# Altium schematic symbol library Micron Memory Serial NOR Flash.SchLib: 207 symbols (part 4 of 12)
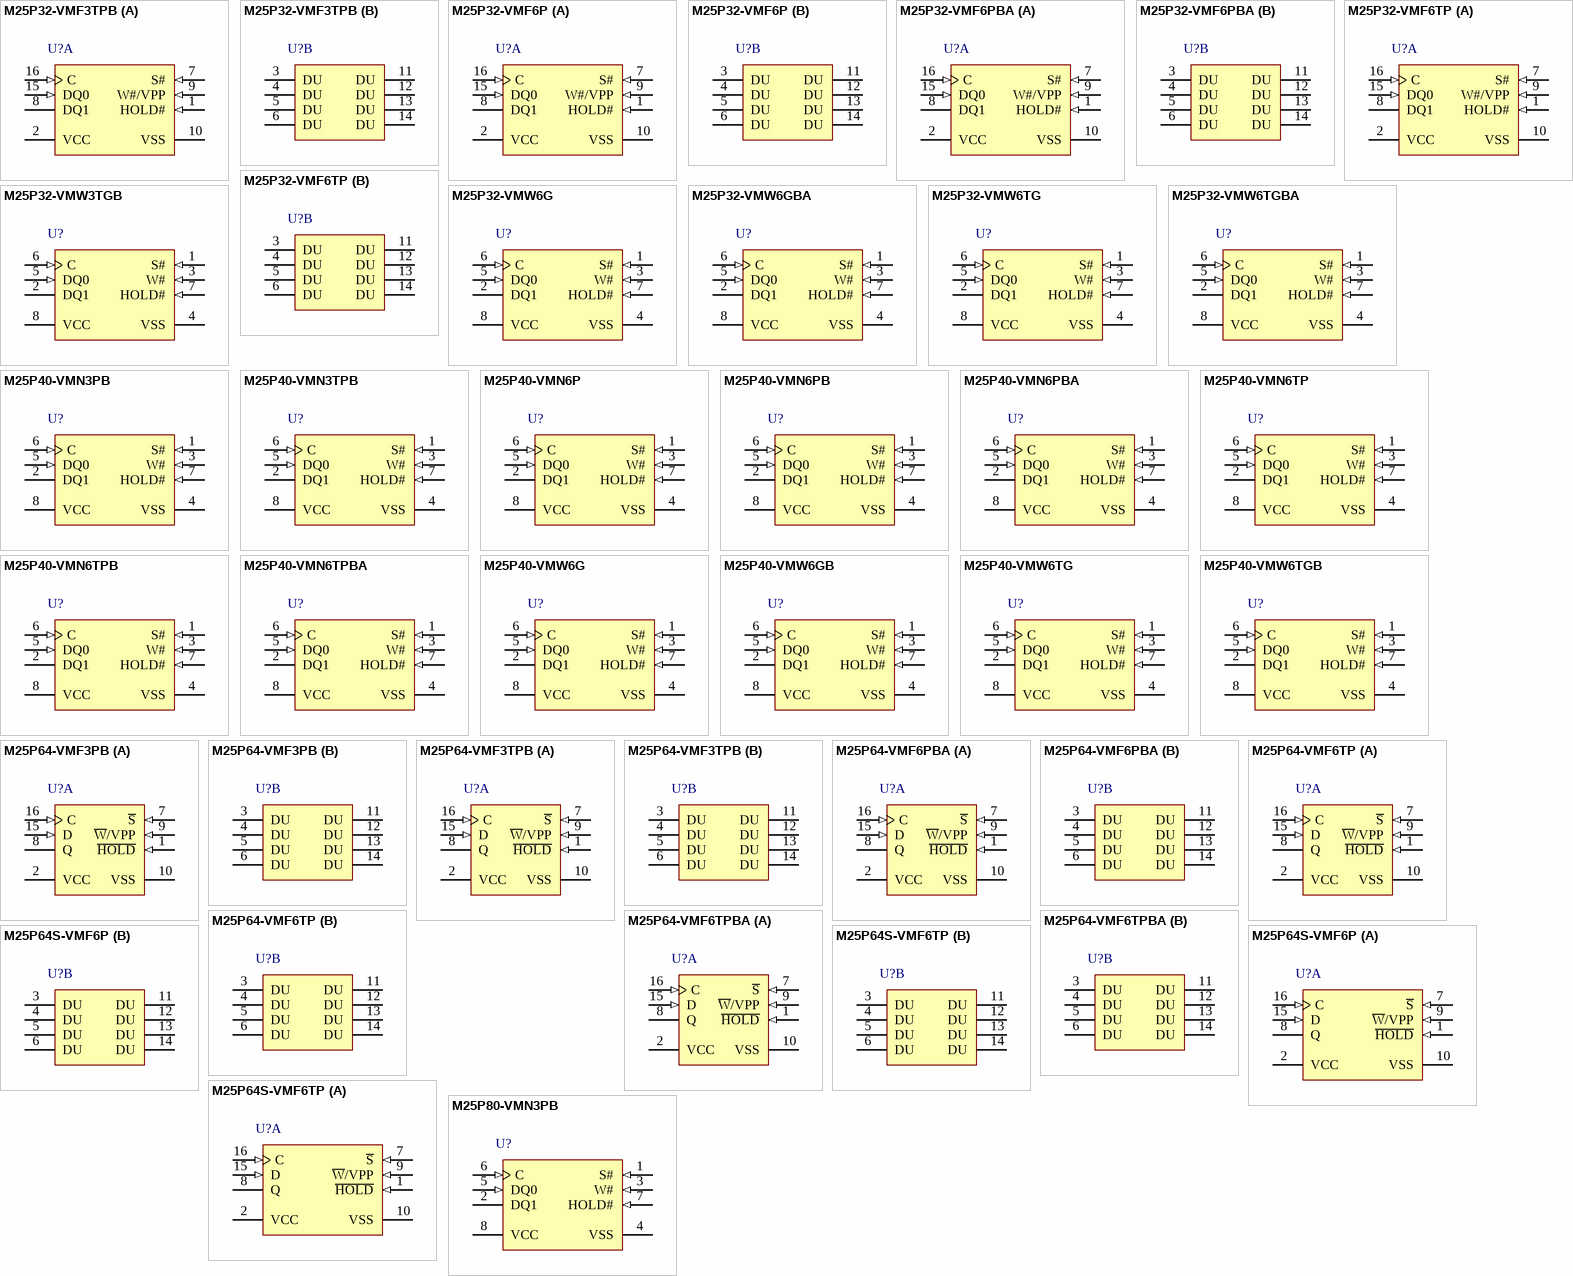
[diagram p10: symbols M25P32-VMF3TPB to M25P80-VMN3PB]

## M25P64-VMF3TPB
designator U?
64 Mb (x1) Automotive Serial NOR Flash Memory, 75 MHz, 2.7 to 3.6 V, 16-pin SO16 Wide (MF), Tape & Reel; Part Family: M25P; Manufacturer: Micron; PartNumber: M25P64-VMF3TPB; Density: 64Mb; Speed: 75 MHz; Voltage: 2.7V-3.6V; DatasheetVersion: Rev. 12; PackageVersion: Rev. A; PackageReference: MICT-MF-16; PackageDescription: 16-Pin SO Wide, 7.5 X 10.3 mm, Pitch 1.27 mm; Applications: Automotive; Package: SO16 Wide; Part Status: Production; RoHS: Yes; Type: Data Storage; Width: x1; Mounting Technology: Surface Mount; ComponentLink1Description: Manufacturer URL; ComponentLink1URL: http://www.micron.com/; ComponentLink2Description: Datasheet; ComponentLink2URL: http://www.micron.com/~/media/Documents/Products/Data%20Sheet/NOR%20Flash/Serial%20NOR/M25P/M25P64.pdf; ComponentLink3Description: Package Specification; ComponentLink3URL: http://www.micron.com/~/media/Documents/Products/Data%20Sheet/NOR%20Flash/Serial%20NOR/M25P/M25P128.pdf
footprint MICT-MF-16_N (SOIC, 16-Leads, Body 10.5x7.6mm, Pitch 1.27mm, IPC Medium Density)
part A pins: 1 ~{HOLD} (in) "The Hold (H\O\L\D\) signal is used to pause any serial communications with the device without  deselecting the device.During the Hold condition, the Serial Data Output (Q) is high impedance, and Serial Data Input (D) and (See Datasheet)", 2 VCC (power) "VCC is the supply voltage.", 7 ~{S} (in) "When this input signal is High, the device is deselected and Serial Data Output (Q) is at high impedance. Unless an internal Program, Erase or Write Status Register cycle is in progress,  the device will be in the Standby (See Datasheet)", 8 Q (hiz) "This output signal is used to transfer data serially out of the device. Data is shifted out on the  falling edge of Serial Clock (C).", 9 ~{W}/VPP (in) "W\/VPP is both a control input and a power supply pin. The two functions are selected by the  voltage range applied to the pin.If the W\/VPP input is kept in a low voltage range (0V to VCC) the pin is seen as a control input.(See Datasheet)", 10 VSS (power) "VSS is the reference for the VCC supply voltage.", 15 D (in) "This input signal is used to transfer data serially into the device. It receives instructions,  addresses, and the data to be programmed. Values are latched on the rising edge of Serial  Clock (C).", 16 C (in) "This input signal provides the timing of the serial interface. Instructions, addresses, or data present at Serial Data Input (D) are latched on the rising edge of Serial Clock (C). Data on Serial Data Output (Q) changes (See Datasheet)"
part B pins: 3 DU "Don’t Use", 4 DU "Don’t Use", 5 DU "Don’t Use", 6 DU "Don’t Use", 11 DU "Don’t Use", 12 DU "Don’t Use", 13 DU "Don’t Use", 14 DU "Don’t Use"

## M25P64-VMF6PBA
designator U?
64 Mb (x1) Automotive Serial NOR Flash Memory, 75 MHz, 2.7 to 3.6 V, 16-pin SO16 Wide (MF), Tube; Part Family: M25P; Manufacturer: Micron; PartNumber: M25P64-VMF6PBA; Density: 64Mb; Speed: 75 MHz; Voltage: 2.7V-3.6V; DatasheetVersion: Rev. 12; PackageVersion: Rev. A; PackageReference: MICT-MF-16; PackageDescription: 16-Pin SO Wide, 7.5 X 10.3 mm, Pitch 1.27 mm; Applications: Automotive; Package: SO16 Wide; Part Status: Production; RoHS: Yes; Type: Data Storage; Width: x1; Mounting Technology: Surface Mount; ComponentLink1Description: Manufacturer URL; ComponentLink1URL: http://www.micron.com/; ComponentLink2Description: Datasheet; ComponentLink2URL: http://www.micron.com/~/media/Documents/Products/Data%20Sheet/NOR%20Flash/Serial%20NOR/M25P/M25P64.pdf; ComponentLink3Description: Package Specification; ComponentLink3URL: http://www.micron.com/~/media/Documents/Products/Data%20Sheet/NOR%20Flash/Serial%20NOR/M25P/M25P128.pdf
footprint MICT-MF-16_N (SOIC, 16-Leads, Body 10.5x7.6mm, Pitch 1.27mm, IPC Medium Density)
part A pins: 1 ~{HOLD} (in) "The Hold (H\O\L\D\) signal is used to pause any serial communications with the device without  deselecting the device.During the Hold condition, the Serial Data Output (Q) is high impedance, and Serial Data Input (D) and (See Datasheet)", 2 VCC (power) "VCC is the supply voltage.", 7 ~{S} (in) "When this input signal is High, the device is deselected and Serial Data Output (Q) is at high impedance. Unless an internal Program, Erase or Write Status Register cycle is in progress,  the device will be in the Standby (See Datasheet)", 8 Q (hiz) "This output signal is used to transfer data serially out of the device. Data is shifted out on the  falling edge of Serial Clock (C).", 9 ~{W}/VPP (in) "W\/VPP is both a control input and a power supply pin. The two functions are selected by the  voltage range applied to the pin.If the W\/VPP input is kept in a low voltage range (0V to VCC) the pin is seen as a control input.(See Datasheet)", 10 VSS (power) "VSS is the reference for the VCC supply voltage.", 15 D (in) "This input signal is used to transfer data serially into the device. It receives instructions,  addresses, and the data to be programmed. Values are latched on the rising edge of Serial  Clock (C).", 16 C (in) "This input signal provides the timing of the serial interface. Instructions, addresses, or data present at Serial Data Input (D) are latched on the rising edge of Serial Clock (C). Data on Serial Data Output (Q) changes (See Datasheet)"
part B pins: 3 DU "Don’t Use", 4 DU "Don’t Use", 5 DU "Don’t Use", 6 DU "Don’t Use", 11 DU "Don’t Use", 12 DU "Don’t Use", 13 DU "Don’t Use", 14 DU "Don’t Use"

## M25P64-VMF6TP
designator U?
64 Mb (x1) Serial NOR Flash Memory, 75 MHz, 2.7 to 3.6 V, 16-pin SO16 Wide (MF), Tape & Reel; Part Family: M25P; Manufacturer: Micron; PartNumber: M25P64-VMF6TP; Density: 64Mb; Speed: 75 MHz; Voltage: 2.7V-3.6V; DatasheetVersion: Rev. 12; PackageVersion: Rev. A; PackageReference: MICT-MF-16; PackageDescription: 16-Pin SO Wide, 7.5 X 10.3 mm, Pitch 1.27 mm; Applications: Embedded; Package: SO16 Wide; Part Status: Production; RoHS: Yes; Type: Data Storage; Width: x1; Mounting Technology: Surface Mount; ComponentLink1Description: Manufacturer URL; ComponentLink1URL: http://www.micron.com/; ComponentLink2Description: Datasheet; ComponentLink2URL: http://www.micron.com/~/media/Documents/Products/Data%20Sheet/NOR%20Flash/Serial%20NOR/M25P/M25P64.pdf; ComponentLink3Description: Package Specification; ComponentLink3URL: http://www.micron.com/~/media/Documents/Products/Data%20Sheet/NOR%20Flash/Serial%20NOR/M25P/M25P128.pdf
footprint MICT-MF-16_N (SOIC, 16-Leads, Body 10.5x7.6mm, Pitch 1.27mm, IPC Medium Density)
part A pins: 1 ~{HOLD} (in) "The Hold (H\O\L\D\) signal is used to pause any serial communications with the device without  deselecting the device.During the Hold condition, the Serial Data Output (Q) is high impedance, and Serial Data Input (D) and (See Datasheet)", 2 VCC (power) "VCC is the supply voltage.", 7 ~{S} (in) "When this input signal is High, the device is deselected and Serial Data Output (Q) is at high impedance. Unless an internal Program, Erase or Write Status Register cycle is in progress,  the device will be in the Standby (See Datasheet)", 8 Q (hiz) "This output signal is used to transfer data serially out of the device. Data is shifted out on the  falling edge of Serial Clock (C).", 9 ~{W}/VPP (in) "W\/VPP is both a control input and a power supply pin. The two functions are selected by the  voltage range applied to the pin.If the W\/VPP input is kept in a low voltage range (0V to VCC) the pin is seen as a control input.(See Datasheet)", 10 VSS (power) "VSS is the reference for the VCC supply voltage.", 15 D (in) "This input signal is used to transfer data serially into the device. It receives instructions,  addresses, and the data to be programmed. Values are latched on the rising edge of Serial  Clock (C).", 16 C (in) "This input signal provides the timing of the serial interface. Instructions, addresses, or data present at Serial Data Input (D) are latched on the rising edge of Serial Clock (C). Data on Serial Data Output (Q) changes (See Datasheet)"
part B pins: 3 DU "Don’t Use", 4 DU "Don’t Use", 5 DU "Don’t Use", 6 DU "Don’t Use", 11 DU "Don’t Use", 12 DU "Don’t Use", 13 DU "Don’t Use", 14 DU "Don’t Use"

## M25P64-VMF6TPBA
designator U?
64 Mb (x1) Automotive Serial NOR Flash Memory, 75 MHz, 2.7 to 3.6 V, 16-pin SO16 Wide (MF), Tape & Reel; Part Family: M25P; Manufacturer: Micron; PartNumber: M25P64-VMF6TPBA; Density: 64Mb; Speed: 75 MHz; Voltage: 2.7V-3.6V; DatasheetVersion: Rev. 12; PackageVersion: Rev. A; PackageReference: MICT-MF-16; PackageDescription: 16-Pin SO Wide, 7.5 X 10.3 mm, Pitch 1.27 mm; Applications: Automotive; Package: SO16 Wide; Part Status: Production; RoHS: Yes; Type: Data Storage; Width: x1; Mounting Technology: Surface Mount; ComponentLink1Description: Manufacturer URL; ComponentLink1URL: http://www.micron.com/; ComponentLink2Description: Datasheet; ComponentLink2URL: http://www.micron.com/~/media/Documents/Products/Data%20Sheet/NOR%20Flash/Serial%20NOR/M25P/M25P64.pdf; ComponentLink3Description: Package Specification; ComponentLink3URL: http://www.micron.com/~/media/Documents/Products/Data%20Sheet/NOR%20Flash/Serial%20NOR/M25P/M25P128.pdf
footprint MICT-MF-16_N (SOIC, 16-Leads, Body 10.5x7.6mm, Pitch 1.27mm, IPC Medium Density)
part A pins: 1 ~{HOLD} (in) "The Hold (H\O\L\D\) signal is used to pause any serial communications with the device without  deselecting the device.During the Hold condition, the Serial Data Output (Q) is high impedance, and Serial Data Input (D) and (See Datasheet)", 2 VCC (power) "VCC is the supply voltage.", 7 ~{S} (in) "When this input signal is High, the device is deselected and Serial Data Output (Q) is at high impedance. Unless an internal Program, Erase or Write Status Register cycle is in progress,  the device will be in the Standby (See Datasheet)", 8 Q (hiz) "This output signal is used to transfer data serially out of the device. Data is shifted out on the  falling edge of Serial Clock (C).", 9 ~{W}/VPP (in) "W\/VPP is both a control input and a power supply pin. The two functions are selected by the  voltage range applied to the pin.If the W\/VPP input is kept in a low voltage range (0V to VCC) the pin is seen as a control input.(See Datasheet)", 10 VSS (power) "VSS is the reference for the VCC supply voltage.", 15 D (in) "This input signal is used to transfer data serially into the device. It receives instructions,  addresses, and the data to be programmed. Values are latched on the rising edge of Serial  Clock (C).", 16 C (in) "This input signal provides the timing of the serial interface. Instructions, addresses, or data present at Serial Data Input (D) are latched on the rising edge of Serial Clock (C). Data on Serial Data Output (Q) changes (See Datasheet)"
part B pins: 3 DU "Don’t Use", 4 DU "Don’t Use", 5 DU "Don’t Use", 6 DU "Don’t Use", 11 DU "Don’t Use", 12 DU "Don’t Use", 13 DU "Don’t Use", 14 DU "Don’t Use"

## M25P64S-VMF6P
designator U?
64 Mb (x1) Serial NOR Flash Memory, 75 MHz, 2.7 to 3.6 V, 16-pin SO16 Wide (MF), Tube; Part Family: M25P; Manufacturer: Micron; PartNumber: M25P64S-VMF6P; Density: 64Mb; Speed: 75 MHz; Voltage: 2.7V-3.6V; DatasheetVersion: Rev. 12; PackageVersion: Rev. A; PackageReference: MICT-MF-16; PackageDescription: 16-Pin SO Wide, 7.5 X 10.3 mm, Pitch 1.27 mm; Applications: Embedded; Package: SO16 Wide; Part Status: Contact Factory; RoHS: Yes; Type: Data Storage; Width: x1; Mounting Technology: Surface Mount; ComponentLink1Description: Manufacturer URL; ComponentLink1URL: http://www.micron.com/; ComponentLink2Description: Datasheet; ComponentLink2URL: http://www.micron.com/~/media/Documents/Products/Data%20Sheet/NOR%20Flash/Serial%20NOR/M25P/M25P64.pdf; ComponentLink3Description: Package Specification; ComponentLink3URL: http://www.micron.com/~/media/Documents/Products/Data%20Sheet/NOR%20Flash/Serial%20NOR/M25P/M25P128.pdf
footprint MICT-MF-16_N (SOIC, 16-Leads, Body 10.5x7.6mm, Pitch 1.27mm, IPC Medium Density)
part A pins: 1 ~{HOLD} (in) "The Hold (H\O\L\D\) signal is used to pause any serial communications with the device withoutdeselecting the device.During the Hold condition, the Serial Data Output (Q) is high impedance, and Serial DataInput (D) and Serial (See Datasheet)", 2 VCC (power) "VCC is the supply voltage.", 7 ~{S} (in) "When this input signal is High, the device is deselected and Serial Data Output (Q) is at highimpedance. Unless an internal Program, Erase or Write Status Register cycle is in progress,the device will be in the Standby Power (See Datasheet)", 8 Q (hiz) "This output signal is used to transfer data serially out of the device. Data is shifted out on the  falling edge of Serial Clock (C).", 9 ~{W}/VPP (in) "Write Protect/Enhanced Program supply voltage (W\/VPP) W\/VPP is both a control input and a power supply pin. The two functions are selected by the voltage range applied to the pin. If the W\/VPP input is kept in a low (See Datasheet)", 10 VSS (power) "VSS is the reference for the VCC supply voltage.", 15 D (in) "This input signal is used to transfer data serially into the device. It receives instructions,addresses, and the data to be programmed. Values are latched on the rising edge of SerialClock (C).", 16 C (in) "This input signal provides the timing of the serial interface. Instructions, addresses, or datapresent at Serial Data Input (D) are latched on the rising edge of Serial Clock (C). Data onSerial Data Output (Q) changes after (See Datasheet)"
part B pins: 3 DU "Don’t Use.", 4 DU "Don’t Use.", 5 DU "Don’t Use.", 6 DU "Don’t Use.", 11 DU "Don’t Use.", 12 DU "Don’t Use.", 13 DU "Don’t Use.", 14 DU "Don’t Use."

## M25P64S-VMF6TP
designator U?
64 Mb (x1) Serial NOR Flash Memory, 75 MHz, 2.7 to 3.6 V, 16-pin SO16 Wide (MF), Tape & Reel; Part Family: M25P; Manufacturer: Micron; PartNumber: M25P64S-VMF6TP; Density: 64Mb; Speed: 75 MHz; Voltage: 2.7V-3.6V; DatasheetVersion: Rev. 12; PackageVersion: Rev. A; PackageReference: MICT-MF-16; PackageDescription: 16-Pin SO Wide, 7.5 X 10.3 mm, Pitch 1.27 mm; Applications: Embedded; Package: SO16 Wide; Part Status: Contact Factory; RoHS: Yes; Type: Data Storage; Width: x1; Mounting Technology: Surface Mount; ComponentLink1Description: Manufacturer URL; ComponentLink1URL: http://www.micron.com/; ComponentLink2Description: Datasheet; ComponentLink2URL: http://www.micron.com/~/media/Documents/Products/Data%20Sheet/NOR%20Flash/Serial%20NOR/M25P/M25P64.pdf; ComponentLink3Description: Package Specification; ComponentLink3URL: http://www.micron.com/~/media/Documents/Products/Data%20Sheet/NOR%20Flash/Serial%20NOR/M25P/M25P128.pdf
footprint MICT-MF-16_N (SOIC, 16-Leads, Body 10.5x7.6mm, Pitch 1.27mm, IPC Medium Density)
part A pins: 1 ~{HOLD} (in) "The Hold (H\O\L\D\) signal is used to pause any serial communications with the device withoutdeselecting the device.During the Hold condition, the Serial Data Output (Q) is high impedance, and Serial DataInput (D) and Serial (See Datasheet)", 2 VCC (power) "VCC is the supply voltage.", 7 ~{S} (in) "When this input signal is High, the device is deselected and Serial Data Output (Q) is at highimpedance. Unless an internal Program, Erase or Write Status Register cycle is in progress,the device will be in the Standby Power (See Datasheet)", 8 Q (hiz) "This output signal is used to transfer data serially out of the device. Data is shifted out on the  falling edge of Serial Clock (C).", 9 ~{W}/VPP (in) "Write Protect/Enhanced Program supply voltage (W\/VPP) W\/VPP is both a control input and a power supply pin. The two functions are selected by the voltage range applied to the pin. If the W\/VPP input is kept in a low (See Datasheet)", 10 VSS (power) "VSS is the reference for the VCC supply voltage.", 15 D (in) "This input signal is used to transfer data serially into the device. It receives instructions,addresses, and the data to be programmed. Values are latched on the rising edge of SerialClock (C).", 16 C (in) "This input signal provides the timing of the serial interface. Instructions, addresses, or datapresent at Serial Data Input (D) are latched on the rising edge of Serial Clock (C). Data onSerial Data Output (Q) changes after (See Datasheet)"
part B pins: 3 DU "Don’t Use.", 4 DU "Don’t Use.", 5 DU "Don’t Use.", 6 DU "Don’t Use.", 11 DU "Don’t Use.", 12 DU "Don’t Use.", 13 DU "Don’t Use.", 14 DU "Don’t Use."

## M25P80-VMN3PB
designator U?
8 Mb (x1) Automotive Serial NOR Flash Memory, 75 MHz, 2.7 to 3.6 V, 8-pin SO8 Narrow (MN), Tube; Part Family: M25P; Manufacturer: Micron; PartNumber: M25P80-VMN3PB; Density: 8Mb; Speed: 75 MHz; Voltage: 2.7V-3.6V; DatasheetVersion: Rev. Y; PackageVersion: Rev 11; PackageReference: MICT-MN-8; PackageDescription: 8-Pin SO Narrow, 3.9 X 4.9 mm, Pitch 1.27 mm; Applications: Automotive; Package: SO8 Narrow; Part Status: Production; RoHS: Yes; Type: Data Storage; Width: x1; Mounting Technology: Surface Mount; ComponentLink1Description: Manufacturer URL; ComponentLink1URL: http://www.micron.com/; ComponentLink2Description: Datasheet; ComponentLink2URL: http://www.micron.com/~/media/Documents/Products/Data%20Sheet/NOR%20Flash/Serial%20NOR/M25P/M25P80.pdf; ComponentLink3Description: Package Specification; ComponentLink3URL: http://www.micron.com/~/media/Documents/Products/Data%20Sheet/NOR%20Flash/Serial%20NOR/M25P/M25P05A.pdf
footprint MICT-MN-8_N (SOIC, 8-Leads, Body 5x4mm, Pitch 1.27mm, IPC Medium Density)
pins: 1 S# (in) "Chip select: When the S# input signal is HIGH, the device is deselected and DQ1 is at HIGH impedance. Unless an internal PROGRAM, ERASE, or WRITE STATUS REGISTER cycle is in progress, the device will be in the standby power (See Datasheet)", 2 DQ1 (hiz) "Serial data: The DQ1 output signal is used to transfer data serially out of the device.Data is shifted out on the falling edge of the serial clock (C).", 3 W# (in) "Write protect: The W# input signal is used to freeze the size of the area of memory that is protected against program or erase commands as specified by the values in BP2, BP1, and BP0 bits of the Status Register.", 4 VSS (power) "Ground: Reference for the VCC supply voltage.", 5 DQ0 (in) "Serial data: The DQ0 input signal is used to transfer data serially into the device. It receives commands, addresses, and the data to be programmed. Values are latched on the rising edge of the serial clock (C).", 6 C (in) "Clock: The C input signal provides the timing of the serial interface. Commands, addresses, or data present at serial data input (DQ0) are latched on the rising edge of the serial clock (C). Data on DQ1 changes after the (See Datasheet)", 7 HOLD# (in) "Hold: The HOLD# signal is used to pause any serial communications with the device without deselecting the device. During the hold condition, DQ1 is HIGH impedance.DQ0 and C are Don’t care. To start the hold condition, the (See Datasheet)", 8 VCC (power) "Device core power supply: Source voltage."

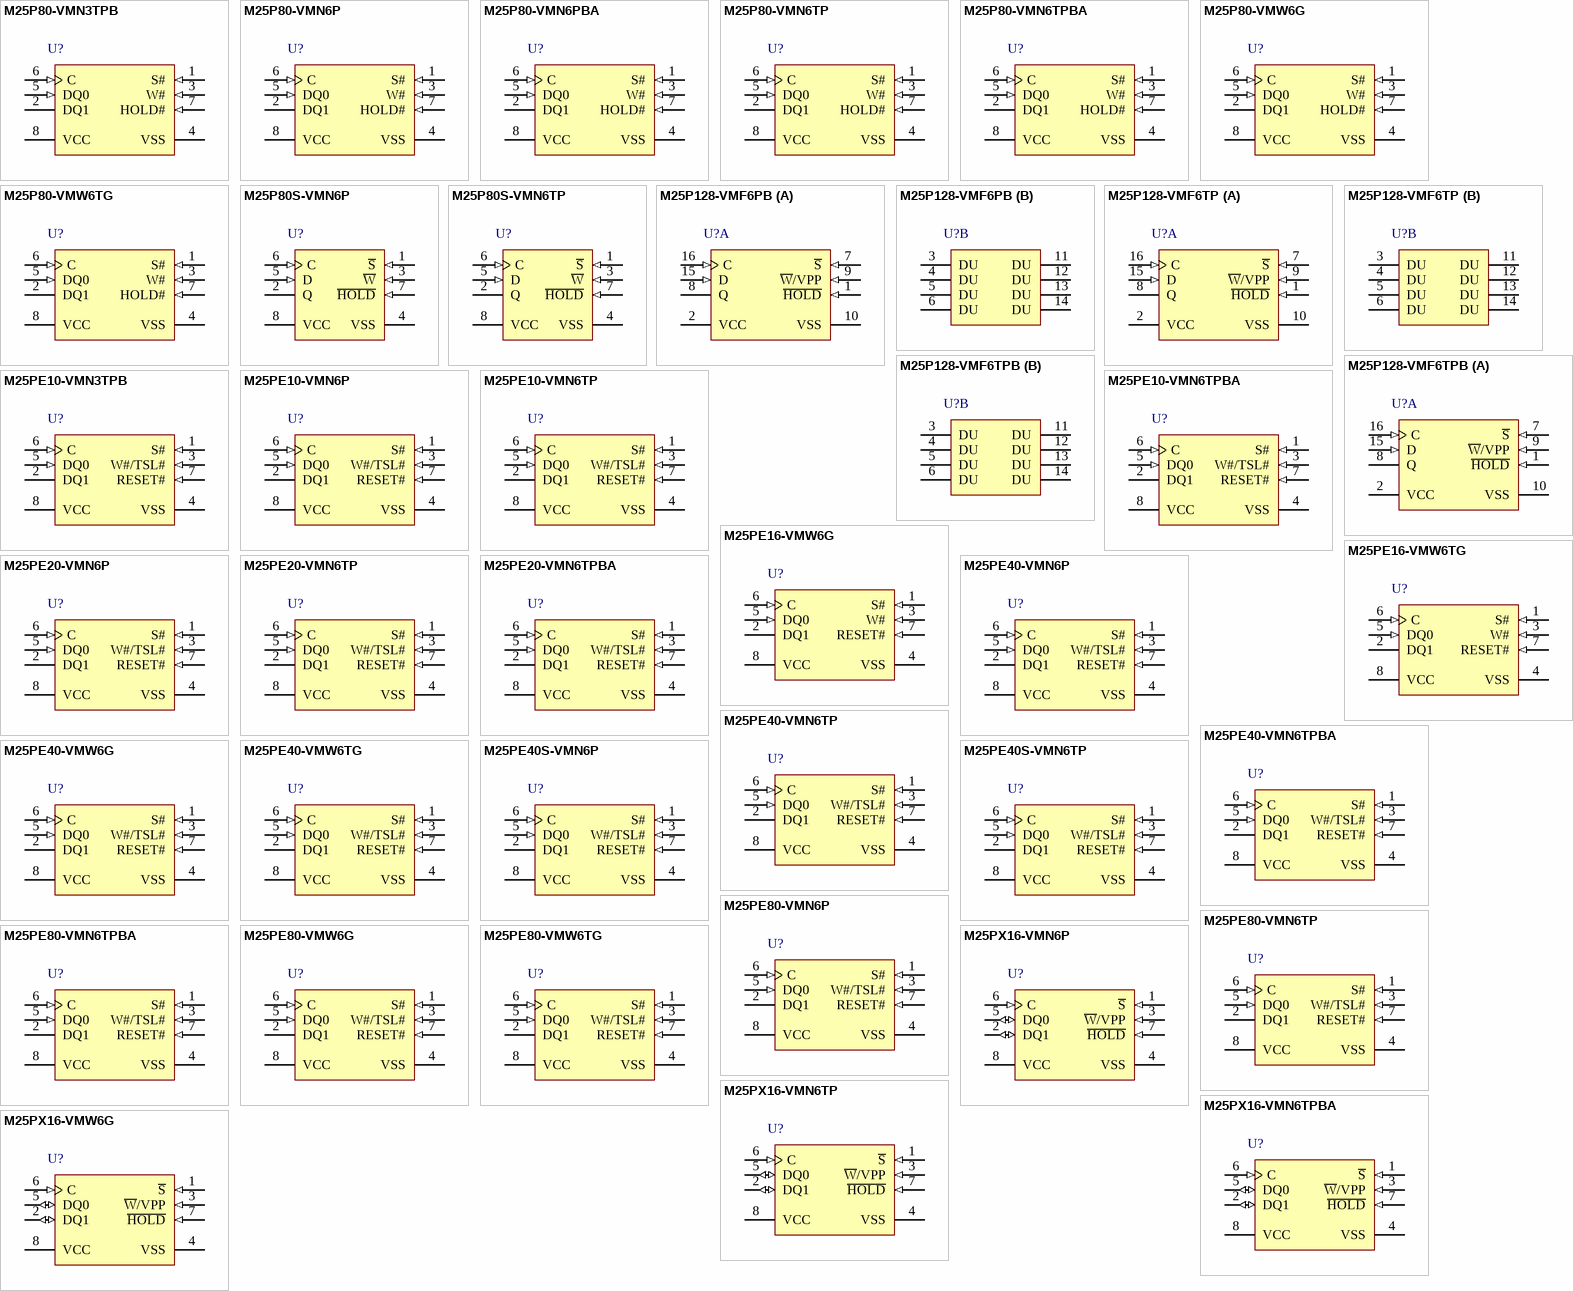
[diagram p2: symbols M25P80-VMN3TPB to M25PX16-VMW6G]

## M25P80-VMN3TPB
designator U?
8 Mb (x1) Automotive Serial NOR Flash Memory, 75 MHz, 2.7 to 3.6 V, 8-pin SO8 Narrow (MN), Tape & Reel; Part Family: M25P; Manufacturer: Micron; PartNumber: M25P80-VMN3TPB; Density: 8Mb; Speed: 75 MHz; Voltage: 2.7V-3.6V; DatasheetVersion: Rev. Y; PackageVersion: Rev 11; PackageReference: MICT-MN-8; PackageDescription: 8-Pin SO Narrow, 3.9 X 4.9 mm, Pitch 1.27 mm; Applications: Automotive; Package: SO8 Narrow; Part Status: Production; RoHS: Yes; Type: Data Storage; Width: x1; Mounting Technology: Surface Mount; ComponentLink1Description: Manufacturer URL; ComponentLink1URL: http://www.micron.com/; ComponentLink2Description: Datasheet; ComponentLink2URL: http://www.micron.com/~/media/Documents/Products/Data%20Sheet/NOR%20Flash/Serial%20NOR/M25P/M25P80.pdf; ComponentLink3Description: Package Specification; ComponentLink3URL: http://www.micron.com/~/media/Documents/Products/Data%20Sheet/NOR%20Flash/Serial%20NOR/M25P/M25P05A.pdf
footprint MICT-MN-8_N (SOIC, 8-Leads, Body 5x4mm, Pitch 1.27mm, IPC Medium Density)
pins: 1 S# (in) "Chip select: When the S# input signal is HIGH, the device is deselected and DQ1 is at HIGH impedance. Unless an internal PROGRAM, ERASE, or WRITE STATUS REGISTER cycle is in progress, the device will be in the standby power (See Datasheet)", 2 DQ1 (hiz) "Serial data: The DQ1 output signal is used to transfer data serially out of the device. Data is shifted out on the falling edge of the serial clock (C).", 3 W# (in) "Write protect: The W# input signal is used to freeze the size of the area of memory that is protected against program or erase commands as specified by the values in BP2, BP1, and BP0 bits of the Status Register.", 4 VSS (power) "Ground: Reference for the VCC supply voltage.", 5 DQ0 (in) "Serial data: The DQ0 input signal is used to transfer data serially into the device. It receives commands, addresses, and the data to be programmed. Values are latched on the rising edge of the serial clock (C).", 6 C (in) "Clock: The C input signal provides the timing of the serial interface. Commands, addresses, or data present at serial data input (DQ0) is latched on the rising edge of the serial clock (C). Data on DQ1 changes after the (See Datasheet)", 7 HOLD# (in) "Hold: The HOLD# signal is used to pause any serial communications with the device without deselecting the device. During the hold condition, DQ1 is High-Z. DQ0 and C are "Don’t Care." To start the hold condition, the device (See Datasheet)", 8 VCC (power) "Device core power supply: Source voltage."

## M25P80-VMN6P
designator U?
8 Mb (x1) Serial NOR Flash Memory, 75 MHz, 2.7 to 3.6 V, 8-pin SO8 Narrow (MN), Tube; Part Family: M25P; Manufacturer: Micron; PartNumber: M25P80-VMN6P; Density: 8Mb; Speed: 75 MHz; Voltage: 2.7V-3.6V; DatasheetVersion: Rev. Y; PackageVersion: Rev 11; PackageReference: MICT-MN-8; PackageDescription: 8-Pin SO Narrow, 3.9 X 4.9 mm, Pitch 1.27 mm; Applications: Embedded; Package: SO8 Narrow; Part Status: Production; RoHS: Yes; Type: Data Storage; Width: x1; Mounting Technology: Surface Mount; ComponentLink1Description: Manufacturer URL; ComponentLink1URL: http://www.micron.com/; ComponentLink2Description: Datasheet; ComponentLink2URL: http://www.micron.com/~/media/Documents/Products/Data%20Sheet/NOR%20Flash/Serial%20NOR/M25P/M25P80.pdf; ComponentLink3Description: Package Specification; ComponentLink3URL: http://www.micron.com/~/media/Documents/Products/Data%20Sheet/NOR%20Flash/Serial%20NOR/M25P/M25P05A.pdf
footprint MICT-MN-8_N (SOIC, 8-Leads, Body 5x4mm, Pitch 1.27mm, IPC Medium Density)
pins: 1 S# (in) "Chip select: When the S# input signal is HIGH, the device is deselected and DQ1 is at HIGH impedance. Unless an internal PROGRAM, ERASE, or WRITE STATUS REGISTER cycle is in progress, the device will be in the standby power (See Datasheet)", 2 DQ1 (hiz) "Serial data: The DQ1 output signal is used to transfer data serially out of the device.Data is shifted out on the falling edge of the serial clock (C).", 3 W# (in) "Write protect: The W# input signal is used to freeze the size of the area of memory that is protected against program or erase commands as specified by the values in BP2, BP1, and BP0 bits of the Status Register.", 4 VSS (power) "Ground: Reference for the VCC supply voltage.", 5 DQ0 (in) "Serial data: The DQ0 input signal is used to transfer data serially into the device. It receives commands, addresses, and the data to be programmed. Values are latched on the rising edge of the serial clock (C).", 6 C (in) "Clock: The C input signal provides the timing of the serial interface. Commands, addresses, or data present at serial data input (DQ0) are latched on the rising edge of the serial clock (C). Data on DQ1 changes after the (See Datasheet)", 7 HOLD# (in) "Hold: The HOLD# signal is used to pause any serial communications with the device without deselecting the device. During the hold condition, DQ1 is HIGH impedance.DQ0 and C are Don’t care. To start the hold condition, the (See Datasheet)", 8 VCC (power) "Device core power supply: Source voltage."

## M25P80-VMN6PBA
designator U?
8 Mb (x1) Automotive Serial NOR Flash Memory, 75 MHz, 2.7 to 3.6 V, 8-pin SO8 Narrow (MN), Tube; Part Family: M25P; Manufacturer: Micron; PartNumber: M25P80-VMN6PBA; Density: 8Mb; Speed: 75 MHz; Voltage: 2.7V-3.6V; DatasheetVersion: Rev. Y; PackageVersion: Rev 11; PackageReference: MICT-MN-8; PackageDescription: 8-Pin SO Narrow, 3.9 X 4.9 mm, Pitch 1.27 mm; Applications: Automotive; Package: SO8 Narrow; Part Status: Production; RoHS: Yes; Type: Data Storage; Width: x1; Mounting Technology: Surface Mount; ComponentLink1Description: Manufacturer URL; ComponentLink1URL: http://www.micron.com/; ComponentLink2Description: Datasheet; ComponentLink2URL: http://www.micron.com/~/media/Documents/Products/Data%20Sheet/NOR%20Flash/Serial%20NOR/M25P/M25P80.pdf; ComponentLink3Description: Package Specification; ComponentLink3URL: http://www.micron.com/~/media/Documents/Products/Data%20Sheet/NOR%20Flash/Serial%20NOR/M25P/M25P05A.pdf
footprint MICT-MN-8_N (SOIC, 8-Leads, Body 5x4mm, Pitch 1.27mm, IPC Medium Density)
pins: 1 S# (in) "Chip select: When the S# input signal is HIGH, the device is deselected and DQ1 is at HIGH impedance. Unless an internal PROGRAM, ERASE, or WRITE STATUS REGISTER cycle is in progress, the device will be in the standby power (See Datasheet)", 2 DQ1 (hiz) "Serial data: The DQ1 output signal is used to transfer data serially out of the device.Data is shifted out on the falling edge of the serial clock (C).", 3 W# (in) "Write protect: The W# input signal is used to freeze the size of the area of memory that is protected against program or erase commands as specified by the values in BP2, BP1, and BP0 bits of the Status Register.", 4 VSS (power) "Ground: Reference for the VCC supply voltage.", 5 DQ0 (in) "Serial data: The DQ0 input signal is used to transfer data serially into the device. It receives commands, addresses, and the data to be programmed. Values are latched on the rising edge of the serial clock (C).", 6 C (in) "Clock: The C input signal provides the timing of the serial interface. Commands, addresses, or data present at serial data input (DQ0) are latched on the rising edge of the serial clock (C). Data on DQ1 changes after the (See Datasheet)", 7 HOLD# (in) "Hold: The HOLD# signal is used to pause any serial communications with the device without deselecting the device. During the hold condition, DQ1 is HIGH impedance.DQ0 and C are Don’t care. To start the hold condition, the (See Datasheet)", 8 VCC (power) "Device core power supply: Source voltage."

## M25P80-VMN6TP
designator U?
8 Mb (x1) Serial NOR Flash Memory, 75 MHz, 2.7 to 3.6 V, 8-pin SO8 Narrow (MN), Tape & Reel; Part Family: M25P; Manufacturer: Micron; PartNumber: M25P80-VMN6TP; Density: 8Mb; Speed: 75 MHz; Voltage: 2.7V-3.6V; DatasheetVersion: Rev. Y; PackageVersion: Rev 11; PackageReference: MICT-MN-8; PackageDescription: 8-Pin SO Narrow, 3.9 X 4.9 mm, Pitch 1.27 mm; Applications: Embedded; Package: SO8 Narrow; Part Status: Production; RoHS: Yes; Type: Data Storage; Width: x1; Mounting Technology: Surface Mount; ComponentLink1Description: Manufacturer URL; ComponentLink1URL: http://www.micron.com/; ComponentLink2Description: Datasheet; ComponentLink2URL: http://www.micron.com/~/media/Documents/Products/Data%20Sheet/NOR%20Flash/Serial%20NOR/M25P/M25P80.pdf; ComponentLink3Description: Package Specification; ComponentLink3URL: http://www.micron.com/~/media/Documents/Products/Data%20Sheet/NOR%20Flash/Serial%20NOR/M25P/M25P05A.pdf
footprint MICT-MN-8_N (SOIC, 8-Leads, Body 5x4mm, Pitch 1.27mm, IPC Medium Density)
pins: 1 S# (in) "Chip select: When the S# input signal is HIGH, the device is deselected and DQ1 is at HIGH impedance. Unless an internal PROGRAM, ERASE, or WRITE STATUS REGISTER cycle is in progress, the device will be in the standby power (See Datasheet)", 2 DQ1 (hiz) "Serial data: The DQ1 output signal is used to transfer data serially out of the device.Data is shifted out on the falling edge of the serial clock (C).", 3 W# (in) "Write protect: The W# input signal is used to freeze the size of the area of memory that is protected against program or erase commands as specified by the values in BP2, BP1, and BP0 bits of the Status Register.", 4 VSS (power) "Ground: Reference for the VCC supply voltage.", 5 DQ0 (in) "Serial data: The DQ0 input signal is used to transfer data serially into the device. It receives commands, addresses, and the data to be programmed. Values are latched on the rising edge of the serial clock (C).", 6 C (in) "Clock: The C input signal provides the timing of the serial interface. Commands, addresses, or data present at serial data input (DQ0) are latched on the rising edge of the serial clock (C). Data on DQ1 changes after the (See Datasheet)", 7 HOLD# (in) "Hold: The HOLD# signal is used to pause any serial communications with the device without deselecting the device. During the hold condition, DQ1 is HIGH impedance.DQ0 and C are Don’t care. To start the hold condition, the (See Datasheet)", 8 VCC (power) "Device core power supply: Source voltage."

## M25P80-VMN6TPBA
designator U?
8 Mb (x1) Automotive Serial NOR Flash Memory, 75 MHz, 2.7 to 3.6 V, 8-pin SO8 Narrow (MN), Tape & Reel; Part Family: M25P; Manufacturer: Micron; PartNumber: M25P80-VMN6TPBA; Density: 8Mb; Speed: 75 MHz; Voltage: 2.7V-3.6V; DatasheetVersion: Rev. Y; PackageVersion: Rev 11; PackageReference: MICT-MN-8; PackageDescription: 8-Pin SO Narrow, 3.9 X 4.9 mm, Pitch 1.27 mm; Applications: Automotive; Package: SO8 Narrow; Part Status: Production; RoHS: Yes; Type: Data Storage; Width: x1; Mounting Technology: Surface Mount; ComponentLink1Description: Manufacturer URL; ComponentLink1URL: http://www.micron.com/; ComponentLink2Description: Datasheet; ComponentLink2URL: http://www.micron.com/~/media/Documents/Products/Data%20Sheet/NOR%20Flash/Serial%20NOR/M25P/M25P80.pdf; ComponentLink3Description: Package Specification; ComponentLink3URL: http://www.micron.com/~/media/Documents/Products/Data%20Sheet/NOR%20Flash/Serial%20NOR/M25P/M25P05A.pdf
footprint MICT-MN-8_N (SOIC, 8-Leads, Body 5x4mm, Pitch 1.27mm, IPC Medium Density)
pins: 1 S# (in) "Chip select: When the S# input signal is HIGH, the device is deselected and DQ1 is at HIGH impedance. Unless an internal PROGRAM, ERASE, or WRITE STATUS REGISTER cycle is in progress, the device will be in the standby power (See Datasheet)", 2 DQ1 (hiz) "Serial data: The DQ1 output signal is used to transfer data serially out of the device.Data is shifted out on the falling edge of the serial clock (C).", 3 W# (in) "Write protect: The W# input signal is used to freeze the size of the area of memory that is protected against program or erase commands as specified by the values in BP2, BP1, and BP0 bits of the Status Register.", 4 VSS (power) "Ground: Reference for the VCC supply voltage.", 5 DQ0 (in) "Serial data: The DQ0 input signal is used to transfer data serially into the device. It receives commands, addresses, and the data to be programmed. Values are latched on the rising edge of the serial clock (C).", 6 C (in) "Clock: The C input signal provides the timing of the serial interface. Commands, addresses, or data present at serial data input (DQ0) are latched on the rising edge of the serial clock (C). Data on DQ1 changes after the (See Datasheet)", 7 HOLD# (in) "Hold: The HOLD# signal is used to pause any serial communications with the device without deselecting the device. During the hold condition, DQ1 is HIGH impedance.DQ0 and C are Don’t care. To start the hold condition, the (See Datasheet)", 8 VCC (power) "Device core power supply: Source voltage."

## M25P80-VMW6G
designator U?
8 Mb (x1) Serial NOR Flash Memory, 75 MHz, 2.7 to 3.6 V, 8-pin SO8 Wide (MW), Tube; Part Family: M25P; Manufacturer: Micron; PartNumber: M25P80-VMW6G; Density: 8Mb; Speed: 75 MHz; Voltage: 2.7V-3.6V; DatasheetVersion: Rev. Y; PackageVersion: Rev 8; PackageReference: MICT-MW-8; PackageDescription: 8-Pin SO Wide, 5.62 X 6.05 mm, Pitch 1.27 mm; Applications: Embedded; Package: SO8 Wide; Part Status: Production; RoHS: Yes; Type: Data Storage; Width: x1; Mounting Technology: Surface Mount; ComponentLink1Description: Manufacturer URL; ComponentLink1URL: http://www.micron.com/; ComponentLink2Description: Datasheet; ComponentLink2URL: http://www.micron.com/~/media/Documents/Products/Data%20Sheet/NOR%20Flash/Serial%20NOR/M25P/M25P80.pdf; ComponentLink3Description: Package Specification; ComponentLink3URL: http://www.micron.com/~/media/Documents/Products/Data%20Sheet/NOR%20Flash/Serial%20NOR/M25P/M25P16.pdf
footprint MICT-MW-8_N (SOIC, 8-Leads, Body 6.2x6.1mm, Pitch 1.27mm, IPC Medium Density)
pins: 1 S# (in) "Chip select: When the S# input signal is HIGH, the device is deselected and DQ1 is at HIGH impedance. Unless an internal PROGRAM, ERASE, or WRITE STATUS REGISTER cycle is in progress, the device will be in the standby power (See Datasheet)", 2 DQ1 (hiz) "Serial data: The DQ1 output signal is used to transfer data serially out of the device.Data is shifted out on the falling edge of the serial clock (C).", 3 W# (in) "Write protect: The W# input signal is used to freeze the size of the area of memory that is protected against program or erase commands as specified by the values in BP2, BP1, and BP0 bits of the Status Register.", 4 VSS (power) "Ground: Reference for the VCC supply voltage.", 5 DQ0 (in) "Serial data: The DQ0 input signal is used to transfer data serially into the device. It receives commands, addresses, and the data to be programmed. Values are latched on the rising edge of the serial clock (C).", 6 C (in) "Clock: The C input signal provides the timing of the serial interface. Commands, addresses, or data present at serial data input (DQ0) are latched on the rising edge of the serial clock (C). Data on DQ1 changes after the (See Datasheet)", 7 HOLD# (in) "Hold: The HOLD# signal is used to pause any serial communications with the device without deselecting the device. During the hold condition, DQ1 is HIGH impedance.DQ0 and C are Don’t care. To start the hold condition, the (See Datasheet)", 8 VCC (power) "Device core power supply: Source voltage."

## M25P80-VMW6TG
designator U?
8 Mb (x1) Serial NOR Flash Memory, 75 MHz, 2.7 to 3.6 V, 8-pin SO8 Wide (MW), Tape & Reel; Part Family: M25P; Manufacturer: Micron; PartNumber: M25P80-VMW6TG; Density: 8Mb; Speed: 75 MHz; Voltage: 2.7V-3.6V; DatasheetVersion: Rev. Y; PackageVersion: Rev 8; PackageReference: MICT-MW-8; PackageDescription: 8-Pin SO Wide, 5.62 X 6.05 mm, Pitch 1.27 mm; Applications: Embedded; Package: SO8 Wide; Part Status: Production; RoHS: Yes; Type: Data Storage; Width: x1; Mounting Technology: Surface Mount; ComponentLink1Description: Manufacturer URL; ComponentLink1URL: http://www.micron.com/; ComponentLink2Description: Datasheet; ComponentLink2URL: http://www.micron.com/~/media/Documents/Products/Data%20Sheet/NOR%20Flash/Serial%20NOR/M25P/M25P80.pdf; ComponentLink3Description: Package Specification; ComponentLink3URL: http://www.micron.com/~/media/Documents/Products/Data%20Sheet/NOR%20Flash/Serial%20NOR/M25P/M25P16.pdf
footprint MICT-MW-8_N (SOIC, 8-Leads, Body 6.2x6.1mm, Pitch 1.27mm, IPC Medium Density)
pins: 1 S# (in) "Chip select: When the S# input signal is HIGH, the device is deselected and DQ1 is at HIGH impedance. Unless an internal PROGRAM, ERASE, or WRITE STATUS REGISTER cycle is in progress, the device will be in the standby power (See Datasheet)", 2 DQ1 (hiz) "Serial data: The DQ1 output signal is used to transfer data serially out of the device.Data is shifted out on the falling edge of the serial clock (C).", 3 W# (in) "Write protect: The W# input signal is used to freeze the size of the area of memory that is protected against program or erase commands as specified by the values in BP2, BP1, and BP0 bits of the Status Register.", 4 VSS (power) "Ground: Reference for the VCC supply voltage.", 5 DQ0 (in) "Serial data: The DQ0 input signal is used to transfer data serially into the device. It receives commands, addresses, and the data to be programmed. Values are latched on the rising edge of the serial clock (C).", 6 C (in) "Clock: The C input signal provides the timing of the serial interface. Commands, addresses, or data present at serial data input (DQ0) are latched on the rising edge of the serial clock (C). Data on DQ1 changes after the (See Datasheet)", 7 HOLD# (in) "Hold: The HOLD# signal is used to pause any serial communications with the device without deselecting the device. During the hold condition, DQ1 is HIGH impedance.DQ0 and C are Don’t care. To start the hold condition, the (See Datasheet)", 8 VCC (power) "Device core power supply: Source voltage."

## M25P80S-VMN6P
designator U?
8 Mb (x1) Serial NOR Flash Memory, 75 MHz, 2.7 to 3.6 V, 8-pin SO8 Narrow (MN), Tube; Part Family: M25P; Manufacturer: Micron; PartNumber: M25P80S-VMN6P; Density: 8Mb; Speed: 75 MHz; Voltage: 2.7V-3.6V; DatasheetVersion: Rev. Y; PackageVersion: Rev 11; PackageReference: MICT-MN-8; PackageDescription: 8-Pin SO Narrow, 3.9 X 4.9 mm, Pitch 1.27 mm; Applications: Embedded; Package: SO8 Narrow; Part Status: Production; RoHS: Yes; Type: Data Storage; Width: x1; Mounting Technology: Surface Mount; ComponentLink1Description: Manufacturer URL; ComponentLink1URL: http://www.micron.com/; ComponentLink2Description: Datasheet; ComponentLink2URL: http://www.micron.com/~/media/Documents/Products/Data%20Sheet/NOR%20Flash/Serial%20NOR/M25P/M25P80.pdf; ComponentLink3Description: Package Specification; ComponentLink3URL: http://www.micron.com/~/media/Documents/Products/Data%20Sheet/NOR%20Flash/Serial%20NOR/M25P/M25P05A.pdf
footprint MICT-MN-8_N (SOIC, 8-Leads, Body 5x4mm, Pitch 1.27mm, IPC Medium Density)
pins: 1 ~{S} (in) "When this input signal is High, the device is deselected and Serial Data output (DQ1) is at high impedance. Unless an internal Program, Erase or Write Status Register cycle is in progress, the device will be in the Standby (See Datasheet)", 2 Q (hiz) "This output signal is used to transfer data serially out of the device. Data are shifted out on the falling edge of Serial Clock (C).", 3 ~{W} (in) "The main purpose of this input signal is to freeze the size of the area of memory that is protected against program or erase instructions (as specified by the values in the BP1 and BP0 bits of the Status Register).", 4 VSS (power) "VSS is the reference for the VCC supply voltage.", 5 D (in) "This input signal is used to transfer data serially into the device. It receives instructions,addresses, and the data to be programmed. Values are latched on the rising edge of Serial Clock (C).", 6 C (in) "This input signal provides the timing of the serial interface. Instructions, addresses, or data present at Serial Data input (DQ0) are latched on the rising edge of Serial Clock (C). Data on Serial Data output (DQ1) changes (See Datasheet)", 7 ~{HOLD} (in) "The Hold (H\O\L\D\) signal is used to pause any serial communications with the device without deselecting the device. During the Hold condition, the Serial Data output (DQ1) is high impedance, and Serial Data input (DQ0) and (See Datasheet)", 8 VCC (power) "VCC is the supply voltage."

## M25P80S-VMN6TP
designator U?
8 Mb (x1) Serial NOR Flash Memory, 75 MHz, 2.7 to 3.6 V, 8-pin SO8 Narrow (MN), Tape & Reel; Part Family: M25P; Manufacturer: Micron; PartNumber: M25P80S-VMN6TP; Density: 8Mb; Speed: 75 MHz; Voltage: 2.7V-3.6V; DatasheetVersion: Rev. Y; PackageVersion: Rev 11; PackageReference: MICT-MN-8; PackageDescription: 8-Pin SO Narrow, 3.9 X 4.9 mm, Pitch 1.27 mm; Applications: Embedded; Package: SO8 Narrow; Part Status: Production; RoHS: Yes; Type: Data Storage; Width: x1; Mounting Technology: Surface Mount; ComponentLink1Description: Manufacturer URL; ComponentLink1URL: http://www.micron.com/; ComponentLink2Description: Datasheet; ComponentLink2URL: http://www.micron.com/~/media/Documents/Products/Data%20Sheet/NOR%20Flash/Serial%20NOR/M25P/M25P80.pdf; ComponentLink3Description: Package Specification; ComponentLink3URL: http://www.micron.com/~/media/Documents/Products/Data%20Sheet/NOR%20Flash/Serial%20NOR/M25P/M25P05A.pdf
footprint MICT-MN-8_N (SOIC, 8-Leads, Body 5x4mm, Pitch 1.27mm, IPC Medium Density)
pins: 1 ~{S} (in) "When this input signal is High, the device is deselected and Serial Data output (DQ1) is at high impedance. Unless an internal Program, Erase or Write Status Register cycle is in progress, the device will be in the Standby (See Datasheet)", 2 Q (hiz) "This output signal is used to transfer data serially out of the device. Data are shifted out on the falling edge of Serial Clock (C).", 3 ~{W} (in) "The main purpose of this input signal is to freeze the size of the area of memory that is protected against program or erase instructions (as specified by the values in the BP1 and BP0 bits of the Status Register).", 4 VSS (power) "VSS is the reference for the VCC supply voltage.", 5 D (in) "This input signal is used to transfer data serially into the device. It receives instructions,addresses, and the data to be programmed. Values are latched on the rising edge of Serial Clock (C).", 6 C (in) "This input signal provides the timing of the serial interface. Instructions, addresses, or data present at Serial Data input (DQ0) are latched on the rising edge of Serial Clock (C). Data on Serial Data output (DQ1) changes (See Datasheet)", 7 ~{HOLD} (in) "The Hold (H\O\L\D\) signal is used to pause any serial communications with the device without deselecting the device. During the Hold condition, the Serial Data output (DQ1) is high impedance, and Serial Data input (DQ0) and (See Datasheet)", 8 VCC (power) "VCC is the supply voltage."

## M25P128-VMF6PB
designator U?
128 Mb (x1) Serial NOR Flash Memory, 75 MHz, 2.7 to 3.6 V, 16-pin SO16 Wide (MF), Tube; Part Family: M25P; Manufacturer: Micron; PartNumber: M25P128-VMF6PB; Density: 128Mb; Speed: 75 MHz; Voltage: 2.7V-3.6V; DatasheetVersion: Rev. 6; PackageVersion: Rev. A; PackageReference: MICT-MF-16; PackageDescription: 16-Pin SO Wide, 7.5 X 10.3 mm, Pitch 1.27 mm; Applications: Embedded; Package: SO16 Wide; Part Status: Production; RoHS: Yes; Type: Data Storage; Width: x1; Mounting Technology: Surface Mount; ComponentLink1Description: Manufacturer URL; ComponentLink1URL: http://www.micron.com/; ComponentLink2Description: Datasheet; ComponentLink2URL: http://www.micron.com/~/media/Documents/Products/Data%20Sheet/NOR%20Flash/Serial%20NOR/M25P/M25P128.pdf; ComponentLink3Description: Package Specification; ComponentLink3URL: http://www.micron.com/~/media/Documents/Products/Data%20Sheet/NOR%20Flash/Serial%20NOR/M25P/M25P128.pdf
footprint MICT-MF-16_N (SOIC, 16-Leads, Body 10.5x7.6mm, Pitch 1.27mm, IPC Medium Density)
part A pins: 1 ~{HOLD} (in) "The Hold (HOLD) signal is used to pause any serial communications with the device withoutdeselecting the device.During the Hold condition, the Serial Data Output (Q) is high impedance, and Serial DataInput (D) and Serial (See Datasheet)", 2 VCC (power) "VCC is the supply voltage.", 7 ~{S} (in) "When this input signal is High, the device is deselected and Serial Data Output (Q) is at highimpedance. Unless an internal Program, Erase or Write Status Register cycle is in progress,the device will be in the Standby Power (See Datasheet)", 8 Q (hiz) "This output signal is used to transfer data serially out of the device. Data is shifted out on thefalling edge of Serial Clock (C).", 9 ~{W}/VPP (in) "W\/VPP is both a control input and a power supply pin. The two functions are selected by thevoltage range applied to the pin.If the W\/VPP input is kept in a low voltage range (0V to VCC) the pin is seen as a controlinput. (See Datasheet)", 10 VSS (power) "VSS is the reference for the VCC supply voltage.", 15 D (in) "This input signal is used to transfer data serially into the device. It receives instructions,addresses, and the data to be programmed. Values are latched on the rising edge of SerialClock (C).", 16 C (in) "This input signal provides the timing of the serial interface. Instructions, addresses, or data  present at Serial Data Input (D) are latched on the rising edge of Serial Clock (C). Data on  Serial Data Output (Q) changes (See Datasheet)"
part B pins: 3 DU "Don’t use.", 4 DU "Don’t use.", 5 DU "Don’t use.", 6 DU "Don’t use.", 11 DU "Don’t use.", 12 DU "Don’t use.", 13 DU "Don’t use.", 14 DU "Don’t use."

## M25P128-VMF6TP
designator U?
128 Mb (x1) Serial NOR Flash Memory, 75 MHz, 2.7 to 3.6 V, 16-pin SO16 Wide (MF), Tape & Reel; Part Family: M25P; Manufacturer: Micron; PartNumber: M25P128-VMF6TP; Density: 128Mb; Speed: 75 MHz; Voltage: 2.7V-3.6V; DatasheetVersion: Rev. 6; PackageVersion: Rev. A; PackageReference: MICT-MF-16; PackageDescription: 16-Pin SO Wide, 7.5 X 10.3 mm, Pitch 1.27 mm; Applications: Embedded; Package: SO16 Wide; Part Status: Production; RoHS: Yes; Type: Data Storage; Width: x1; Mounting Technology: Surface Mount; ComponentLink1Description: Manufacturer URL; ComponentLink1URL: http://www.micron.com/; ComponentLink2Description: Datasheet; ComponentLink2URL: http://www.micron.com/~/media/Documents/Products/Data%20Sheet/NOR%20Flash/Serial%20NOR/M25P/M25P128.pdf; ComponentLink3Description: Package Specification; ComponentLink3URL: http://www.micron.com/~/media/Documents/Products/Data%20Sheet/NOR%20Flash/Serial%20NOR/M25P/M25P128.pdf
footprint MICT-MF-16_N (SOIC, 16-Leads, Body 10.5x7.6mm, Pitch 1.27mm, IPC Medium Density)
part A pins: 1 ~{HOLD} (in) "The Hold (HOLD) signal is used to pause any serial communications with the device withoutdeselecting the device.During the Hold condition, the Serial Data Output (Q) is high impedance, and Serial DataInput (D) and Serial (See Datasheet)", 2 VCC (power) "VCC is the supply voltage.", 7 ~{S} (in) "When this input signal is High, the device is deselected and Serial Data Output (Q) is at highimpedance. Unless an internal Program, Erase or Write Status Register cycle is in progress,the device will be in the Standby Power (See Datasheet)", 8 Q (hiz) "This output signal is used to transfer data serially out of the device. Data is shifted out on thefalling edge of Serial Clock (C).", 9 ~{W}/VPP (in) "W\/VPP is both a control input and a power supply pin. The two functions are selected by thevoltage range applied to the pin.If the W\/VPP input is kept in a low voltage range (0V to VCC) the pin is seen as a controlinput. (See Datasheet)", 10 VSS (power) "VSS is the reference for the VCC supply voltage.", 15 D (in) "This input signal is used to transfer data serially into the device. It receives instructions,addresses, and the data to be programmed. Values are latched on the rising edge of SerialClock (C).", 16 C (in) "This input signal provides the timing of the serial interface. Instructions, addresses, or data  present at Serial Data Input (D) are latched on the rising edge of Serial Clock (C). Data on  Serial Data Output (Q) changes (See Datasheet)"
part B pins: 3 DU "Don’t use.", 4 DU "Don’t use.", 5 DU "Don’t use.", 6 DU "Don’t use.", 11 DU "Don’t use.", 12 DU "Don’t use.", 13 DU "Don’t use.", 14 DU "Don’t use."

## M25P128-VMF6TPB
designator U?
128 Mb (x1) Serial NOR Flash Memory, 75 MHz, 2.7 to 3.6 V, 16-pin SO16 Wide (MF), Tape & Reel; Part Family: M25P; Manufacturer: Micron; PartNumber: M25P128-VMF6TPB; Density: 128Mb; Speed: 75 MHz; Voltage: 2.7V-3.6V; DatasheetVersion: Rev. 6; PackageVersion: Rev. A; PackageReference: MICT-MF-16; PackageDescription: 16-Pin SO Wide, 7.5 X 10.3 mm, Pitch 1.27 mm; Applications: Embedded; Package: SO16 Wide; Part Status: Production; RoHS: Yes; Type: Data Storage; Width: x1; Mounting Technology: Surface Mount; ComponentLink1Description: Manufacturer URL; ComponentLink1URL: http://www.micron.com/; ComponentLink2Description: Datasheet; ComponentLink2URL: http://www.micron.com/~/media/Documents/Products/Data%20Sheet/NOR%20Flash/Serial%20NOR/M25P/M25P128.pdf; ComponentLink3Description: Package Specification; ComponentLink3URL: http://www.micron.com/~/media/Documents/Products/Data%20Sheet/NOR%20Flash/Serial%20NOR/M25P/M25P128.pdf
footprint MICT-MF-16_N (SOIC, 16-Leads, Body 10.5x7.6mm, Pitch 1.27mm, IPC Medium Density)
part A pins: 1 ~{HOLD} (in) "The Hold (HOLD) signal is used to pause any serial communications with the device withoutdeselecting the device.During the Hold condition, the Serial Data Output (Q) is high impedance, and Serial DataInput (D) and Serial (See Datasheet)", 2 VCC (power) "VCC is the supply voltage.", 7 ~{S} (in) "When this input signal is High, the device is deselected and Serial Data Output (Q) is at highimpedance. Unless an internal Program, Erase or Write Status Register cycle is in progress,the device will be in the Standby Power (See Datasheet)", 8 Q (hiz) "This output signal is used to transfer data serially out of the device. Data is shifted out on thefalling edge of Serial Clock (C).", 9 ~{W}/VPP (in) "W\/VPP is both a control input and a power supply pin. The two functions are selected by thevoltage range applied to the pin.If the W\/VPP input is kept in a low voltage range (0V to VCC) the pin is seen as a controlinput. (See Datasheet)", 10 VSS (power) "VSS is the reference for the VCC supply voltage.", 15 D (in) "This input signal is used to transfer data serially into the device. It receives instructions,addresses, and the data to be programmed. Values are latched on the rising edge of SerialClock (C).", 16 C (in) "This input signal provides the timing of the serial interface. Instructions, addresses, or data  present at Serial Data Input (D) are latched on the rising edge of Serial Clock (C). Data on  Serial Data Output (Q) changes (See Datasheet)"
part B pins: 3 DU "Don’t use.", 4 DU "Don’t use.", 5 DU "Don’t use.", 6 DU "Don’t use.", 11 DU "Don’t use.", 12 DU "Don’t use.", 13 DU "Don’t use.", 14 DU "Don’t use."